# EAGLE library part RA-02_LORA (library RA-02_LORA)
Ra-02 LoRa RF M5Stack Platform Evaluation Expansion Board Check availability <https://pricing.snapeda.com/parts/Ra-02%20LoRa/AI-Thinker/view-part?ref=eda>
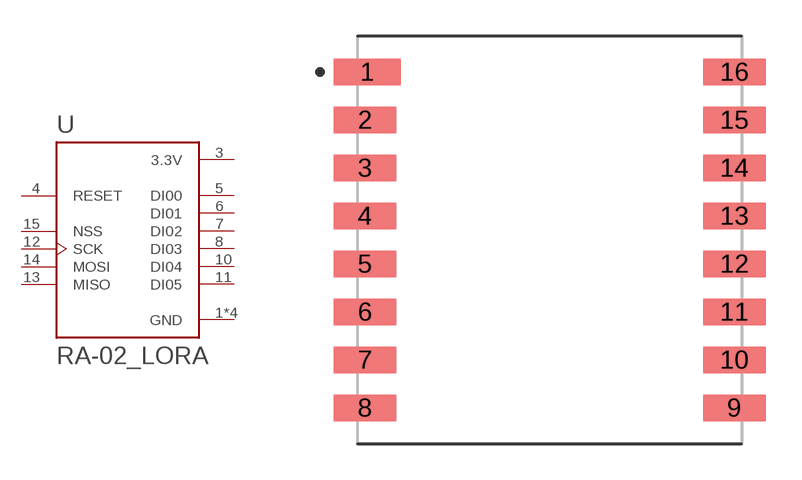
[diagram p0: symbol with the pads of MODULE_RA-02_LORA; footprint MODULE_RA-02_LORA]

Designator prefix U

## RA-02_LORA (Availability: Not in stock; Check_prices: https://www.snapeda.com/parts/Ra-02%20LoRa/AI-Thinker/view-part/?ref=eda; Description: Ra-02 LoRa RF M5Stack Platform Evaluation Expansion Board; MF: AI-Thinker; MP: Ra-02 LoRa; Package: None; Price: None; SnapEDA_Link: https://www.snapeda.com/parts/Ra-02%20LoRa/AI-Thinker/view-part/?ref=snap)  [MODULE_RA-02_LORA]
1  GND  pwr
2  GND  pwr
3  3.3V  pwr
4  RESET  in
5  DI00
6  DI01
7  DI02
8  DI03
9  GND  pwr
10  DI04
11  DI05
12  SCK  in
13  MISO  out
14  MOSI  in
15  NSS  in
16  GND  pwr

## Footprint MODULE_RA-02_LORA (pad centres in mm)
smd 2.8 x 1.1: 1 -7.6,7
smd 2.6 x 1.1: 2 -7.7,5; 3 -7.7,3; 4 -7.7,1; 5 -7.7,-1; 6 -7.7,-3; 7 -7.7,-5; 8 -7.7,-7; 9 7.7,-7; 10 7.7,-5; 11 7.7,-3; 12 7.7,-1; 13 7.7,1; 14 7.7,3; 15 7.7,5; 16 7.7,7